# Altium integrated library BATTERY.IntLib: 3 symbols
Pins are listed as number, name and electrical type; pins without a type are passive.

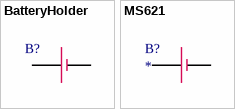
[diagram p0: symbols BatteryHolder to MS621]

## BatteryHolder
designator B?  (value not drawn)
Rem: *; Package: *; Value: *; Tolerance: *; Power/Voltage: *; TKE: *; ManufacturerPartNumber: *; Manufacturer: *; Quantity: *; Примечание: *; Price: *
footprint BatteryHolder
pins: 1 +, 2 -

## MS621
designator B?
footprint MS621FE
pins: 1 +, 2 -

## РЫБА
designator R?  (value not drawn)
Rem: *; Package: *; Value: *; Tolerance: *; Power/Voltage: *; TKE: *; ManufacturerPartNumber: *; Manufacturer: *; Quantity: *; Примечание: *; Price: *